# Altium schematic symbol library Untitled1.SchLib: 11 symbols
Pins are listed as number, name and electrical type; pins without a type are passive.

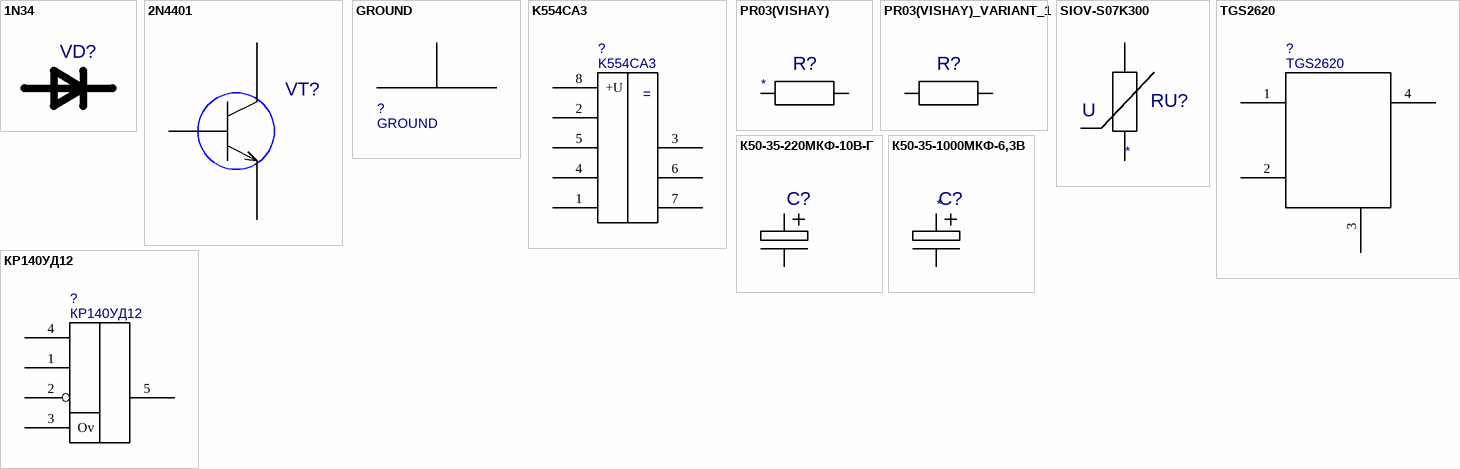
[diagram p0: symbols 1N34 to КР140УД12]

## 1N34
designator VD?  (value not drawn)
Value: *
footprint DO-7
pins: A, K

## 2N4401
designator VT?  (value not drawn)
Value: *
footprint TO-92-1
pins: 1 E, 2 B, 3 K

## GROUND
designator ?
Value: *
footprint GROUND
pins: 1

## K554CA3
designator ?
Value: *
footprint K554CA3
pins: 1, 2, 3, 4 Ov, 5, 6, 7, 8 +U

## PR03(VISHAY)
designator R?  (value not drawn)
Value: *
footprint PR03(VISHAY)
pins: 1, 2

## PR03(VISHAY)_VARIANT_1
designator R?, comment PR03(VISHAY)  (value not drawn)
PR03(VISHAY)_VARIANT_1; Value: *
footprint PR03(VISHAY)
pins: 1, 2

## SIOV-S07K300
designator RU?  (value not drawn)
Value: *
footprint S07K230
pins: 1, 2
text: U

## TGS2620
designator ?
Value: *
footprint TGS2620
pins: 1, 2, 3, 4

## К50-35-220МКФ-10В-Г
designator C?  (value not drawn)
Value: *
footprint К50-35-0611-Г
pins: 1, 2

## К50-35-1000МКФ-6,3В
designator C?  (value not drawn)
Value: *
footprint R50-35-08XX
pins: 1, 2

## КР140УД12
designator ?
Value: *
footprint КР140УД12
pins: 1, 2, 3 Ov, 4, 5 +U